# Altium footprint library my_lib.PcbLib: 36 footprints (part 3 of 3)
Each footprint in its own frame and in the unit in brackets; x right, y up, seen from the top. Pads: shape width x height; smd on the part's side, far side on the other; paste and mask are expansions set on the pad; w line width, h text height; cw(c..) or ccw(c..) is an arc to the next point about the centre after c.
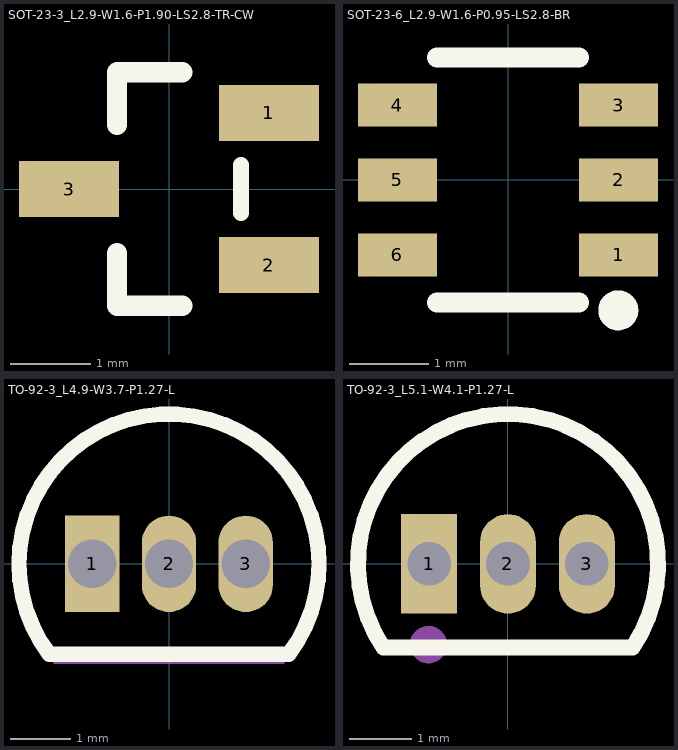
[diagram p2: the footprints below, top view; thin cyan lines are the x and y axes]

## SOT-23-3_L2.9-W1.6-P1.90-LS2.8-TR-CW [mm]
pads (3):
  rect 1.25x0.7 smd: 1(1.25,0.95) 2(1.25,-0.95) 3(-1.25,0)
Top Overlay:
  lines w0.2: 0.9,-0.3 0.9,0.3
  lines w0.254: -0.65,-0.8 -0.65,-1.46 0.165,-1.46 ; 0.165,1.46 -0.65,1.46 ; -0.65,0.8 -0.65,1.46 ; -0.65,0.8 -0.65,1.46 ; -0.65,0.8 -0.65,1.46

## SOT-23-6_L2.9-W1.6-P0.95-LS2.8-BR [mm]
pads (6):
  rect 1x0.55 smd: 1(1.4,-0.95) 2(1.4,0) 3(1.4,0.95) 4(-1.4,0.95) 5(-1.4,0) 6(-1.4,-0.95)
Top Overlay:
  circle w0.254: c1.397,-1.651 r0.127
  lines w0.254: -0.9,-1.55 0.9,-1.55 ; -0.9,1.55 0.9,1.55
Mechanical 15:
  circle w0.2: c1.4,-0.95 r0.1

## TO-92-3_L4.9-W3.7-P1.27-L [mm]
pads (3):
  rect 0.9x1.6 hole 0.8: 1(-1.27,0)
  oval 0.9x1.6 hole 0.8: 2(0,0) 3(1.27,0)
Top Overlay:
  lines w0.254: -1.981,-1.501 cw(c0,-0.003) 1.981,-1.501 ; -1.98,-1.5 1.98,-1.5
Mechanical 15:
  region: -1.905,-1.397 1.905,-1.397 1.905,-1.651 -1.905,-1.651

## TO-92-3_L5.1-W4.1-P1.27-L [mm]
pads (3):
  rect 0.9x1.6 hole 0.7: 1(-1.27,0)
  oval 0.9x1.6 hole 0.7: 2(0,0) 3(1.27,0)
Top Overlay:
  lines w0.254: -2.005,-1.346 cw(c0,-0.003) 2.004,-1.346 -2.005,-1.346
Mechanical 15:
  circle w0.3: c-1.28,-1.3 r0.15